# EAGLE library part MAX11645 (library Maxim)
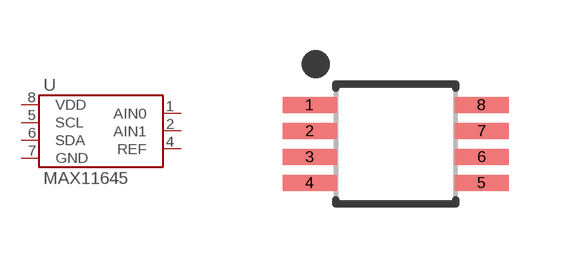
[diagram p5: symbol with the pads of USOP-8; footprint USOP-8]

Designator prefix U

## MAX11645EUA+  [USOP-8]
1  AIN0
2  AIN1
4  REF
5  SCL
6  SDA
7  GND
8  VDD

## Footprint USOP-8 (pad centres in mm)
smd 1.35 x 0.4: 1 -2.15,0.975; 2 -2.15,0.325; 3 -2.15,-0.325; 4 -2.15,-0.975; 5 2.15,-0.975; 6 2.15,-0.325; 7 2.15,0.325; 8 2.15,0.975